# Altium integrated library FA-20H 40.0000MF10Z-K3.IntLib: 1 symbol
Pins are listed as number, name and electrical type; pins without a type are passive.

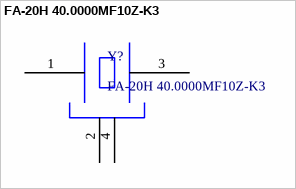
[diagram p0: symbol FA-20H 40.0000MF10Z-K3]

## FA-20H 40.0000MF10Z-K3
designator Y?
Crystal, 40 MHz, 10pF, Epson
footprint FA-20H 40.0000MF10Z-K3_HS
pins: 1, 2, 3, 4